# Altium footprint library WakamelibGOOD.PCBLIB: 54 footprints (part 2 of 4)
Each footprint in its own frame and in the unit in brackets; x right, y up, seen from the top. Pads: shape width x height; smd on the part's side, far side on the other; paste and mask are expansions set on the pad; w line width, h text height; cw(c..) or ccw(c..) is an arc to the next point about the centre after c.
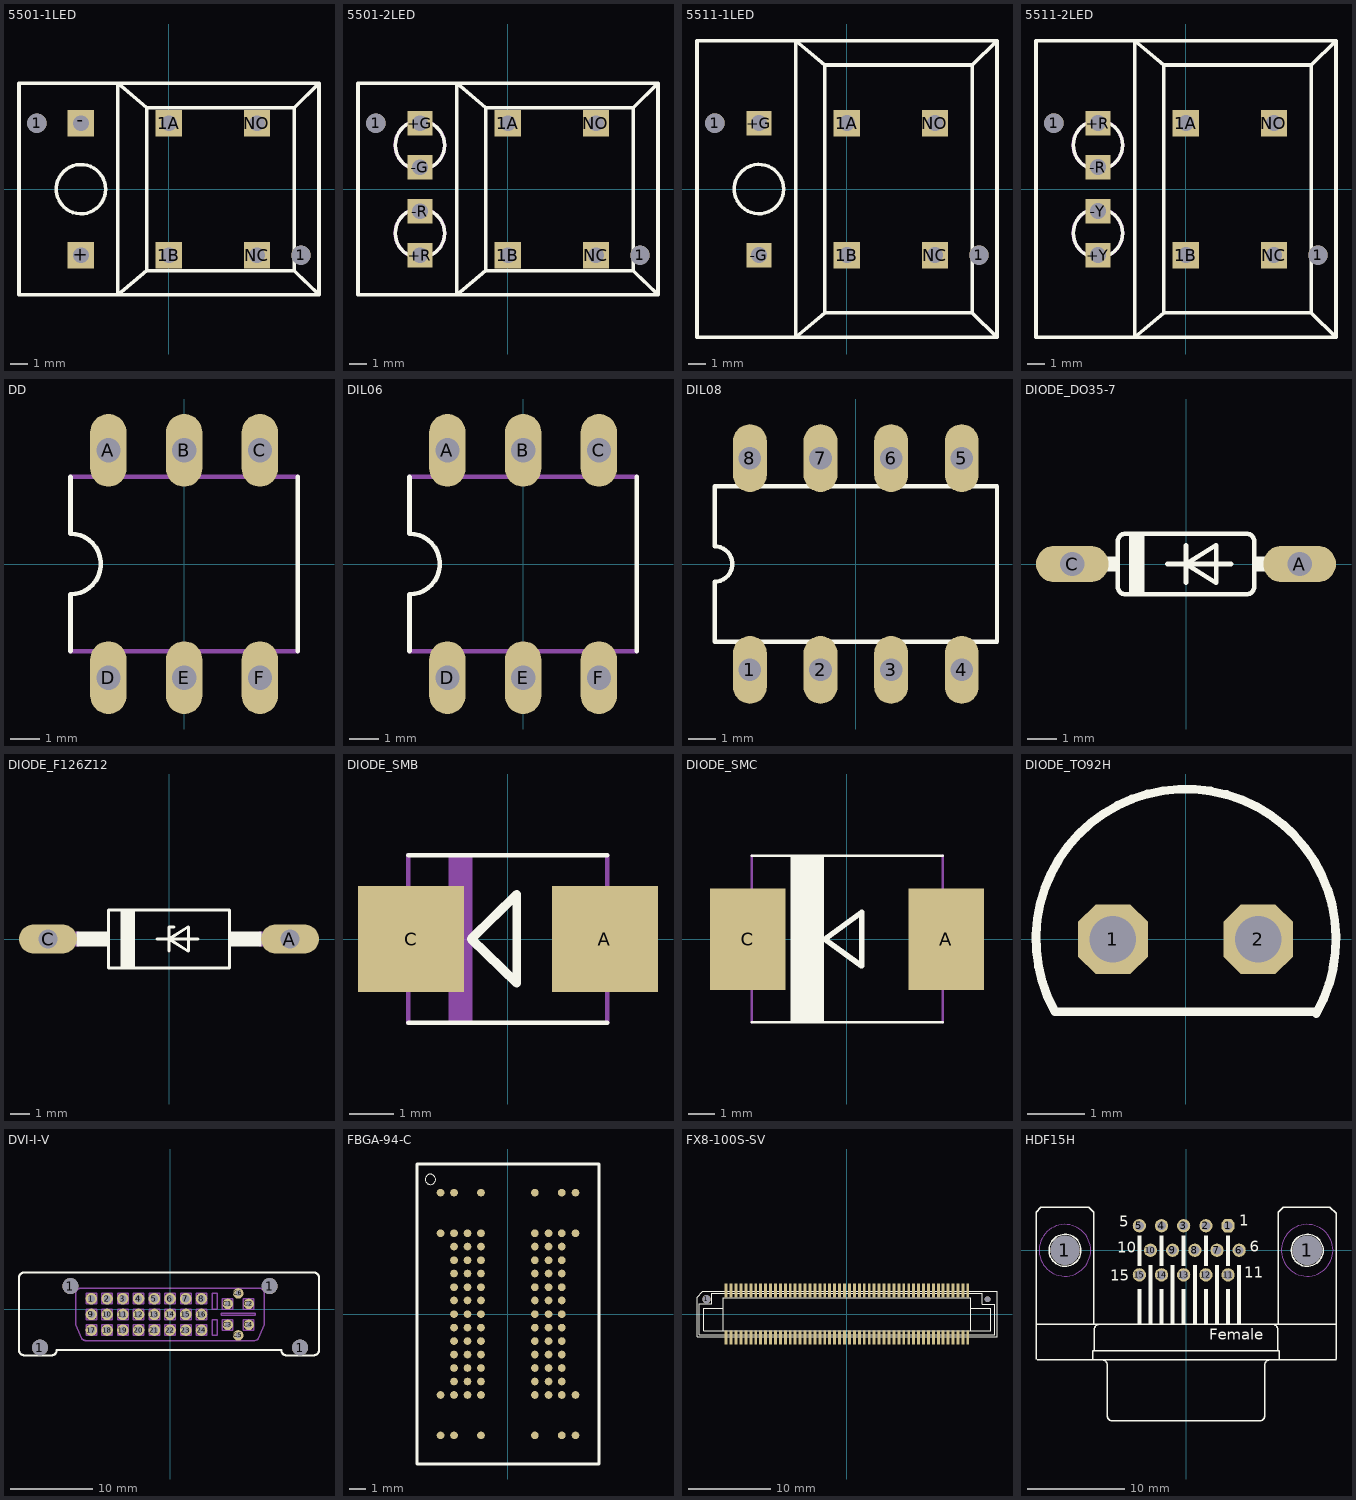
[diagram p1: the footprints below, top view; thin cyan lines are the x and y axes]

## 5501-1LED [mil]
pads (8):
  round 44 hole 44: 1(-300,150) 1(300,-150)
  rect 60x60 hole 36: 1A(0,150) 1B(0,-150) +(-200,-150) -(-200,150) NC(200,-150) NO(200,150)
Top Overlay:
  circle w8: c-200,0 r56
  lines w8: -116.73,-240.16 -50,-185 ; -116.73,-240.16 -116.73,241 ; -116.73,-240.16 341,-240.16 ; -116.73,-240.16 -340.74,-240.16 -340.74,241 -116.73,241 ; -116.73,241 -50,185 ; -116.73,241 341,241 ; -50,-185 285,-185 ; -50,-185 -50,185 ; -50,185 285,185 ; 285,-185 285,185 ; 285,-185 341,-240.16 ; 285,185 341,241 ; 341,-240.16 341,241

## 5501-2LED [mil]
pads (10):
  round 44 hole 44: 1(-300,150) 1(300,-150)
  rect 60x60 hole 36: 1A(0,150) 1B(0,-150) NC(200,-150) NO(200,150)
  rect 56x56 hole 36: +G(-200,150) +R(-200,-150) -G(-200,50) -R(-200,-50)
Top Overlay:
  lines w8: -225,-150 cw(c-200,-100) -225,-50 ; -225,50 cw(c-200,100) -225,150 ; -175,-150 ccw(c-200,-100) -175,-50 ; -175,50 ccw(c-200,100) -175,150 ; -116.73,-240.16 -50,-185 ; -116.73,-240.16 -116.73,241 ; -116.73,-240.16 341,-240.16 ; -116.73,-240.16 -340.74,-240.16 -340.74,241 -116.73,241 ; -116.73,241 -50,185 ; -116.73,241 341,241 ; -50,-185 285,-185 ; -50,-185 -50,185 ; -50,185 285,185 ; 285,-185 285,185 ; 285,-185 341,-240.16 ; 285,185 341,241 ; 341,-240.16 341,241
Mechanical 16:
  circle w8: c-200,-100 r56
  circle w8: c-200,100 r56

## 5511-1LED [mil]
pads (8):
  round 44 hole 44: 1(-300,150) 1(300,-150)
  rect 60x60 hole 36: 1A(0,150) 1B(0,-150) NC(200,-150) NO(200,150)
  rect 56x56 hole 36: +G(-200,150) -G(-200,-150)
Top Overlay:
  circle w8: c-200,0 r56
  lines w8: -116.73,-336.62 -50,-281.46 ; -116.73,-336.62 -116.73,337 ; -116.73,-336.62 341,-336.62 ; -116.73,-336.62 -340.74,-336.62 -340.74,337 -116.73,337 ; -116.73,337 -50,282 ; -116.73,337 341,337 ; -50,-281.46 285,-281.46 ; -50,-281.46 -50,282 ; -50,282 285,282 ; 285,-281.46 285,282 ; 285,-281.46 341,-336.62 ; 285,282 341,337 ; 341,-336.62 341,337

## 5511-2LED [mil]
pads (10):
  round 44 hole 44: 1(-300,150) 1(300,-150)
  rect 60x60 hole 36: 1A(0,150) 1B(0,-150) NC(200,-150) NO(200,150)
  rect 56x56 hole 36: +R(-200,150) +Y(-200,-150) -R(-200,50) -Y(-200,-50)
Top Overlay:
  lines w8: -225,-150 cw(c-200,-100) -225,-50 ; -225,50 cw(c-200,100) -225,150 ; -175,-150 ccw(c-200,-100) -175,-50 ; -175,50 ccw(c-200,100) -175,150 ; -116.73,-336.62 -50,-281.46 ; -116.73,-336.62 -116.73,337 ; -116.73,-336.62 341,-336.62 ; -116.73,-336.62 -340.74,-336.62 -340.74,337 -116.73,337 ; -116.73,337 -50,282 ; -116.73,337 341,337 ; -50,-281.46 285,-281.46 ; -50,-281.46 -50,282 ; -50,282 285,282 ; 285,-281.46 285,282 ; 285,-281.46 341,-336.62 ; 285,282 341,337 ; 341,-336.62 341,337
Mechanical 16:
  circle w8: c-200,-100 r56
  circle w8: c-200,100 r56

## DD [mil]
pads (6):
  oval 48x96 hole 32: A(-100,150) B(0,150) C(100,150) D(-100,-150) E(0,-150) F(100,-150)
Top Overlay:
  lines w6: -150,-115 -150,-40 ccw(c-150,0) -150,40 -150,115 ; 150,-115 150,115
Mechanical 2:
  text "dd" at 15,40 h77.5
Mechanical 4:
Mechanical 16:
  lines w6: -150,-115 150,-115 ; -150,115 150,115

## DIL06 [mil]
pads (6):
  oval 48x96 hole 32: A(-100,150) B(0,150) C(100,150) D(-100,-150) E(0,-150) F(100,-150)
Top Overlay:
  lines w6: -150,-115 -150,-40 ccw(c-150,0) -150,40 -150,115 ; 150,-115 150,115
Mechanical 16:
  lines w6: -150,-115 150,-115 ; -150,115 150,115

## DIL08 [mil]
pads (8):
  oval 48x96 hole 32: 1(-150,-150) 2(-50,-150) 3(50,-150) 4(150,-150) 5(150,150) 6(50,150) 7(-50,150) 8(-150,150)
Top Overlay:
  lines w6: -200,-110 200,-110 200,110 -200,110 -200,25 cw(c-200,0) -200,-25 -200,-110

## DIODE_DO35-7 [mil]
pads (2):
  oval 96x48 hole 32: A(150,0) C(-150,0)
Top Overlay:
  rectangle: -115,-10 -90,10
  rectangle: 90,-10 115,10
  rectangle: -75,-40 -55,40
  lines w6: -25,0 0,0 ; 0,-25 0,0 ; 0,25 0,0 ; 60,0 0,0 ; 0,0 40,25 40,-25 0,0 ; -90,-30 ccw(c-80,-30) -80,-40 80,-40 ccw(c80,-30) 90,-30 90,30 ccw(c80,30) 80,40 -80,40 ccw(c-80,30) -90,30 -90,-30
Mechanical 16:
  lines w20: -150,0 -115,0 ; 115,0 150,0

## DIODE_F126Z12 [mil]
pads (2):
  oval 120x60 hole 40: A(250,0) C(-250,0)
Top Overlay:
  rectangle: 125,-16 191,16
  rectangle: -191,-16 -125,16
  rectangle: -100,-60 -70,60
  lines w6: -25,0 0,0 ; 0,-25 0,0 ; 10,25 0,25 0,0 ; 60,0 0,0 ; 0,0 40,25 40,-25 0,0 ; -125,-60 -125,60 125,60 125,-60 -125,-60
Mechanical 16:
  lines w32: -250,0 -190,0 ; 190,0 250,0

## DIODE_SMB [mil]
pads (2):
  rect 95x95 smd: A(87,0) C(-86.61,0)
Top Overlay:
  lines w4: -89,-75 89,-75 ; -89,75 89,75
  lines w8: -32.68,0 8,-39.37 8,40 -32.68,0
Mechanical 16:
  rectangle: -53.15,-74.8 -31.5,75
  rectangle: 89,-43 110,43
  rectangle: -110,-43 -89,43
  lines w4: -89,-75 -89,75 ; 89,-75 89,75

## DIODE_SMC [mil]
pads (2):
  rect 111x150 smd: A(146,0) C(-145.67,0)
Top Overlay:
  rectangle: -82.68,-122.05 -33.46,123
  lines w4: -140.18,-122.24 141,-122.24 ; -140.18,123 141,123
  lines w8: -32.68,0 22,-39.37 22,40 -32.68,0
Mechanical 16:
  rectangle: 141,-43 162,43
  rectangle: -161.18,-43 -140.18,43
  lines w4: -140.18,-122.24 -140.18,123 ; 141,-122.24 141,123

## DIODE_TO92H [mil]
pads (2):
  oct 48x48 hole 32: 1(-50,0) 2(50,0)
Top Overlay:
  lines w6: 90,-51.08 ccw(c0.3,0.17) -90,-50 90,-50

## DVI-I-V [mil]
pads (34):
  round 76 hole 76: 1(-620,-183) 1(-475,110) 1(475,110) 1(620,-183)
  round 55 hole 34: 1(-375,50) 2(-300,50) 3(-225,50) 4(-150,50) 5(-75,50) 6(0,50) 7(75,50) 8(150,50) 9(-375,-25) 10(-300,-25) 11(-225,-25) 12(-150,-25) 13(-75,-25) 14(0,-25) 15(75,-25) 16(150,-25) 17(-375,-100) 18(-300,-100) 19(-225,-100) 20(-150,-100) 21(-75,-100) 22(0,-100) 23(75,-100) 24(150,-100)
  round 50 hole 26: C1(275,25) C2(375,25) C3(275,-75) C4(375,-75) C5(325,-125) C6(325,75)
Top Overlay:
  lines w10: -720,-195 ccw(c-695,-195) -695,-220 -565,-220 ccw(c-565,-195) -540,-195 530,-195 ccw(c555,-195) 555,-220 685,-220 ccw(c685,-195) 710,-195 710,150 ccw(c685,150) 685,175 -695,175 ccw(c-695,150) -720,150 -720,-195
Mechanical 16:
  lines w6: -450,-75 -420,-140 ccw(c-400,-125) -400,-150 400,-150 ccw(c400,-125) 420,-140 450,-75 450,75 ccw(c425,75) 425,100 -425,100 ccw(c-425,75) -450,75 -450,-75 ; -400,-125 -350,-125 -350,-75 -400,-75 -400,-125 ; -400,-50 -350,-50 -350,0 -400,0 -400,-50 ; -400,25 -350,25 -350,75 -400,75 -400,25 ; -325,-125 -275,-125 -275,-75 -325,-75 -325,-125 ; -325,-50 -275,-50 -275,0 -325,0 -325,-50 ; -325,25 -275,25 -275,75 -325,75 -325,25 ; -250,-125 -200,-125 -200,-75 -250,-75 -250,-125 ; -250,-50 -200,-50 -200,0 -250,0 -250,-50 ; -250,25 -200,25 -200,75 -250,75 -250,25 ; -175,-125 -125,-125 -125,-75 -175,-75 -175,-125 ; -175,-50 -125,-50 -125,0 -175,0 -175,-50 ; -175,25 -125,25 -125,75 -175,75 -175,25 ; -100,-125 -50,-125 -50,-75 -100,-75 -100,-125 ; -100,-50 -50,-50 -50,0 -100,0 -100,-50 ; -100,25 -50,25 -50,75 -100,75 -100,25 ; -25,-125 25,-125 25,-75 -25,-75 -25,-125 ; -25,-50 25,-50 25,0 -25,0 -25,-50 ; -25,25 25,25 25,75 -25,75 -25,25 ; 50,-125 100,-125 100,-75 50,-75 50,-125 ; 50,-50 100,-50 100,0 50,0 50,-50 ; 50,25 100,25 100,75 50,75 50,25 ; 125,-125 175,-125 175,-75 125,-75 125,-125 ; 125,-50 175,-50 175,0 125,0 125,-50 ; 125,25 175,25 175,75 125,75 125,25 ; 200,-125 200,-50 225,-50 225,-125 200,-125 ; 200,0 200,75 225,75 225,0 200,0 ; 245,-30 245,-20 405,-20 405,-30 245,-30 ; 250,-100 300,-100 300,-50 250,-50 250,-100 ; 250,0 300,0 300,50 250,50 250,0 ; 350,-100 400,-100 400,-50 350,-50 350,-100 ; 350,0 400,0 400,50 350,50 350,0

## FBGA-94-C [mil]
pads (94):
  rrect100% 18x18 smd: A1(-157.48,284) A2(-125.98,284) A4(-62.99,284) A8(63,284) A10(126,284) A11(158,284) D1(-157.48,189) D2(-125.98,189) D3(-94.49,189) D4(-62.99,189) D8(63,189) D9(95,189) D10(126,189) D11(158,189) E2(-125.98,158) E3(-94.49,158) E4(-62.99,158) E8(63,158) E9(95,158) E10(126,158) F2(-125.98,126) F3(-94.49,126) F4(-62.99,126) F8(63,126) F9(95,126) F10(126,126) G2(-125.98,95) G3(-94.49,95) G4(-62.99,95) G8(63,95) G9(95,95) G10(126,95) H2(-125.98,63) H3(-94.49,63) H4(-62.99,63) H8(63,63) H9(95,63) H10(126,63) J2(-125.98,32) J3(-94.49,32) J4(-62.99,32) J8(63,32) J9(95,32) J10(126,32) K2(-125.98,0) K3(-94.49,0) K4(-62.99,0) K8(63,0) K9(95,0) K10(126,0) L2(-125.98,-31.5) L3(-94.49,-31.5) L4(-62.99,-31.5) L8(63,-31.5) L9(95,-31.5) L10(126,-31.5) M2(-125.98,-62.99) M3(-94.49,-62.99) M4(-62.99,-62.99) M8(63,-62.99) M9(95,-62.99) M10(126,-62.99) N2(-125.98,-94.49) N3(-94.49,-94.49) N4(-62.99,-94.49) N8(63,-94.49) N9(95,-94.49) N10(126,-94.49) P2(-125.98,-125.98) P3(-94.49,-125.98) P4(-62.99,-125.98) P8(63,-125.98) P9(95,-125.98) P10(126,-125.98) R2(-125.98,-157.48) R3(-94.49,-157.48) R4(-62.99,-157.48) R8(63,-157.48) R9(95,-157.48) R10(126,-157.48) T1(-157.48,-188.98) T2(-125.98,-188.98) T3(-94.49,-188.98) T4(-62.99,-188.98) T8(63,-188.98) T9(95,-188.98) T10(126,-188.98) T11(158,-188.98) W1(-157.48,-283.46) W2(-125.98,-283.46) W4(-62.99,-283.46) W8(63,-283.46) W10(126,-283.46) W11(158,-283.46)
Top Overlay:
  circle w0: c-181.1,315 r12
  lines w8: -212.6,-350.39 -212.6,351 213,351 213,-350.39 -212.6,-350.39
Top Solder:
  circle w0: c158,-283.46 r9
  circle w0: c158,-188.98 r9
  circle w0: c158,189 r9
  circle w0: c158,284 r9
  circle w0: c126,-283.46 r9
  circle w0: c126,-188.98 r9
  circle w0: c126,-157.48 r9
  circle w0: c126,-125.98 r9
  circle w0: c126,-94.49 r9
  circle w0: c126,-62.99 r9
  circle w0: c126,-31.5 r9
  circle w0: c126,0 r9
  circle w0: c126,32 r9
  circle w0: c126,63 r9
  circle w0: c126,95 r9
  circle w0: c126,126 r9
  circle w0: c126,158 r9
  circle w0: c126,189 r9
  circle w0: c126,284 r9
  circle w0: c95,-188.98 r9
  circle w0: c95,-157.48 r9
  circle w0: c95,-125.98 r9
  circle w0: c95,-94.49 r9
  circle w0: c95,-62.99 r9
  circle w0: c95,-31.5 r9
  circle w0: c95,0 r9
  circle w0: c95,32 r9
  circle w0: c95,63 r9
  circle w0: c95,95 r9
  circle w0: c95,126 r9
  circle w0: c95,158 r9
  circle w0: c95,189 r9
  circle w0: c63,-283.46 r9
  circle w0: c63,-188.98 r9
  circle w0: c63,-157.48 r9
  circle w0: c63,-125.98 r9
  circle w0: c63,-94.49 r9
  circle w0: c63,-62.99 r9
  circle w0: c63,-31.5 r9
  circle w0: c63,0 r9
  circle w0: c63,32 r9
  circle w0: c63,63 r9
  circle w0: c63,95 r9
  circle w0: c63,126 r9
  circle w0: c63,158 r9
  circle w0: c63,189 r9
  circle w0: c63,284 r9
  circle w0: c-62.99,-283.46 r9
  circle w0: c-62.99,-188.98 r9
  circle w0: c-62.99,-157.48 r9
  circle w0: c-62.99,-125.98 r9
  circle w0: c-62.99,-94.49 r9
  circle w0: c-62.99,-62.99 r9
  circle w0: c-62.99,-31.5 r9
  circle w0: c-62.99,0 r9
  circle w0: c-62.99,32 r9
  circle w0: c-62.99,63 r9
  circle w0: c-62.99,95 r9
  circle w0: c-62.99,126 r9
  circle w0: c-62.99,158 r9
  circle w0: c-62.99,189 r9
  circle w0: c-62.99,284 r9
  circle w0: c-94.49,-188.98 r9
  circle w0: c-94.49,-157.48 r9
  circle w0: c-94.49,-125.98 r9
  circle w0: c-94.49,-94.49 r9
  circle w0: c-94.49,-62.99 r9
  circle w0: c-94.49,-31.5 r9
  circle w0: c-94.49,0 r9
  circle w0: c-94.49,32 r9
  circle w0: c-94.49,63 r9
  circle w0: c-94.49,95 r9
  circle w0: c-94.49,126 r9
  circle w0: c-94.49,158 r9
  circle w0: c-94.49,189 r9
  circle w0: c-125.98,-283.46 r9
  circle w0: c-125.98,-188.98 r9
  circle w0: c-125.98,-157.48 r9
  circle w0: c-125.98,-125.98 r9
  circle w0: c-125.98,-94.49 r9
  circle w0: c-125.98,-62.99 r9
  circle w0: c-125.98,-31.5 r9
  circle w0: c-125.98,0 r9
  circle w0: c-125.98,32 r9
  circle w0: c-125.98,63 r9
  circle w0: c-125.98,95 r9
  circle w0: c-125.98,126 r9
  circle w0: c-125.98,158 r9
  circle w0: c-125.98,189 r9
  circle w0: c-125.98,284 r9
  circle w0: c-157.48,-283.46 r9
  circle w0: c-157.48,-188.98 r9
  circle w0: c-157.48,189 r9
  circle w0: c-157.48,284 r9

## FX8-100S-SV [mil]
pads (102):
  round 40 hole 40: 1(-673.23,71)
  rect 14x67 smd: 1(-578.74,113) 2(-578.74,-112.2) 3(-555.12,113) 4(-555.12,-112.2) 5(-531.5,113) 6(-531.5,-112.2) 7(-507.87,113) 8(-507.87,-112.2) 9(-484.25,113) 10(-484.25,-112.2) 11(-460.63,113) 12(-460.63,-112.2) 13(-437.01,113) 14(-437.01,-112.2) 15(-413.39,113) 16(-413.39,-112.2) 17(-389.76,113) 18(-389.76,-112.2) 19(-366.14,113) 20(-366.14,-112.2) 21(-342.52,113) 22(-342.52,-112.2) 23(-318.9,113) 24(-318.9,-112.2) 25(-295.28,113) 26(-295.28,-112.2) 27(-271.65,113) 28(-271.65,-112.2) 29(-248.03,113) 30(-248.03,-112.2) 31(-224.41,113) 32(-224.41,-112.2) 33(-200.79,113) 34(-200.79,-112.2) 35(-177.17,113) 36(-177.17,-112.2) 37(-153.54,113) 38(-153.54,-112.2) 39(-129.92,113) 40(-129.92,-112.2) 41(-106.3,113) 42(-106.3,-112.2) 43(-82.68,113) 44(-82.68,-112.2) 45(-59.06,113) 46(-59.06,-112.2) 47(-35.43,113) 48(-35.43,-112.2) 49(-11.81,113) 50(-11.81,-112.2) 51(12,113) 52(12,-112.2) 53(36,113) 54(36,-112.2) 55(60,113) 56(60,-112.2) 57(83,113) 58(83,-112.2) 59(107,113) 60(107,-112.2) 61(130,113) 62(130,-112.2) 63(154,113) 64(154,-112.2) 65(178,113) 66(178,-112.2) 67(201,113) 68(201,-112.2) 69(225,113) 70(225,-112.2) 71(249,113) 72(249,-112.2) 73(272,113) 74(272,-112.2) 75(296,113) 76(296,-112.2) 77(319,113) 78(319,-112.2) 79(343,113) 80(343,-112.2) 81(367,113) 82(367,-112.2) 83(390,113) 84(390,-112.2) 85(414,113) 86(414,-112.2) 87(438,113) 88(438,-112.2) 89(461,113) 90(461,-112.2) 91(485,113) 92(485,-112.2) 93(508,113) 94(508,-112.2) 95(532,113) 96(532,-112.2) 97(556,113) 98(556,-112.2) 99(579,113) 100(579,-112.2)
  round 28 hole 28: 1(674,71)
Top Overlay:
  lines w4: -594.49,-78.74 -687.01,-78.74 -687.01,28 -594.49,28 ; 595,28 688,28 688,-78.74 593,-78.74 ; 593,-78.74 593,79 -592.52,79 -592.52,-78.74 593,-78.74 ; -718.5,-108.27 719,-108.27 719,109 -690.94,109 -718.5,81 -718.5,-108.27 ; -708.66,-98.43 709,-98.43 709,48 648,48 648,99 -647.64,99 -647.64,50 -708.66,50 -708.66,-98.43

## HDF15H [mil]
pads (17):
  round 119 hole 119: 1(-492.13,0) 1(493,0)
  oct 54x54 hole 36: 1(171,100)
  round 54 hole 36: 2(81,100) 3(-9.57,100) 4(-99.57,100) 5(-189.57,100) 6(216,0) 7(126,0) 8(36,0) 9(-54.57,0) 10(-144.57,0) 11(171,-100) 12(81,-100) 13(-9.57,-100) 14(-99.57,-100) 15(-189.57,-100)
Top Overlay:
  circle w6: c493,0 r65
  circle w6: c-492.13,0 r65
  rectangle: 28,-299.21 44,-59.06
  rectangle: -62.44,-299.21 -46.69,-59.06
  rectangle: -152.44,-299.21 -136.69,-59.06
  rectangle: 118,-299.21 134,-59.06
  rectangle: 208,-299.21 224,-59.06
  rectangle: -17.44,-299.21 -1.69,-157.48
  rectangle: -107.44,-299.21 -91.69,-157.48
  rectangle: -197.44,-299.21 -181.69,-157.48
  rectangle: 73,-299.21 89,-157.48
  rectangle: 163,-299.21 179,-157.48
  rectangle: -197.44,-62.99 -181.69,60
  rectangle: -107.44,-62.99 -91.69,60
  rectangle: -17.44,-62.99 -1.69,60
  rectangle: 73,-62.99 89,60
  rectangle: 163,-62.99 179,60
  lines w6: -610,-443.94 -610,-300 ; -605.51,-444.65 610,-444.65 ; -378.5,-443.94 -378.5,-408.19 -373.5,-408.19 ; -375,-300 -375,155 -395,175 -590,175 -610,155 -610,-300 ; -348.5,-300 ccw(c-348.5,-325) -373.5,-325 -373.5,-408.19 ; -345,-444.25 cw(c-345,-469.25) -320,-469.25 -320,-673.19 ccw(c-300,-673.19) -300,-693.19 300,-693.19 ccw(c300,-673.19) 320,-673.19 320,-469.25 cw(c345,-469.25) 345,-444.25 ; 349,-300 cw(c349,-325) 374,-325 374,-408.19 ; 375,-300 375,155 395,175 585,175 610,150 610,-443.94 ; 379,-443.94 379,-408.19 374,-408.19 ; 610,-300 -610,-300 ; -373.5,-408.19 374,-408.19
  text "1" at 216,83 h77.5
  text "5" at -272.24,79 h77.5
  text "6" at 260,-22.24 h77.5
  text "10" at -280.12,-26.18 h77.5
  text "15" at -307.87,-140.35 h77.5
  text "11" at 236,-128.54 h77.5
  text "Female" at 95,-380 h77.5
Mechanical 9:
  circle w0: c493,0 r105
  circle w0: c-492.13,0 r105
Mechanical 10:
  circle w0: c493,0 r105
  circle w0: c-492.13,0 r105
Mechanical 16:
  text "HDF15 CONEC" at -238.74,-579.41 h77.5